# EAGLE library part TPS54260DGQR (library TPS54260DGQR)
3.5V to 60V INPUT, 2.5A, STEP DOWN CONVERTER WITH ECO-MODE Source: Datasheet <http://www.ti.com/lit/gpn/TPS54260>
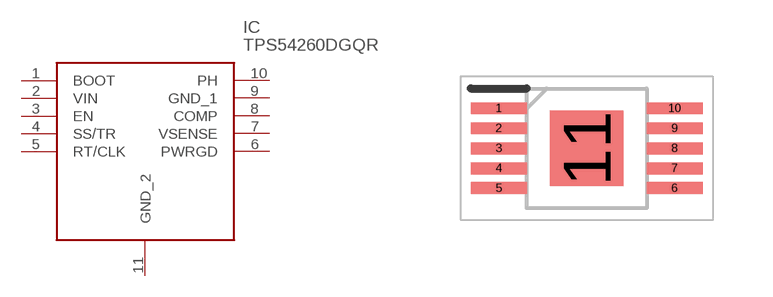
[diagram p0: symbol with the pads of SOP50P490X110-11N; footprint SOP50P490X110-11N]

Designator prefix IC

## TPS54260DGQR (Arrow_Part_Number: TPS54260DGQR; Arrow_Price-Stock: https://www.arrow.com/en/products/tps54260dgqr/texas-instruments?region=nac; Description: 3.5V to 60V INPUT, 2.5A, STEP DOWN CONVERTER WITH ECO-MODE; Height: 1.1mm; Manufacturer_Name: Texas Instruments; Manufacturer_Part_Number: TPS54260DGQR; Mouser_Part_Number: 595-TPS54260DGQR; Mouser_Price-Stock: https://www.mouser.co.uk/ProductDetail/Texas-Instruments/TPS54260DGQR?qs=aOxU%252BKP9clSh979VGmN2fg%3D%3D)  [SOP50P490X110-11N]
1  BOOT
2  VIN
3  EN
4  SS/TR
5  RT/CLK
6  PWRGD
7  VSENSE
8  COMP
9  GND_1
10  PH
11  GND_2

## Footprint SOP50P490X110-11N (pad centres in mm)
TPS54260DGQR-
smd 1.4 x 0.3: 1 -2.2,1; 2 -2.2,0.5; 3 -2.2,0; 4 -2.2,-0.5; 5 -2.2,-1; 6 2.2,-1; 7 2.2,-0.5; 8 2.2,0; 9 2.2,0.5; 10 2.2,1
smd 1.83 x 1.89: 11 0,0